# Altium footprint library LTC1380CSTR.PcbLib: 1 footprints
Each footprint in its own frame and in the unit in brackets; x right, y up, seen from the top. Pads: shape width x height; smd on the part's side, far side on the other; paste and mask are expansions set on the pad; w line width, h text height; cw(c..) or ccw(c..) is an arc to the next point about the centre after c.
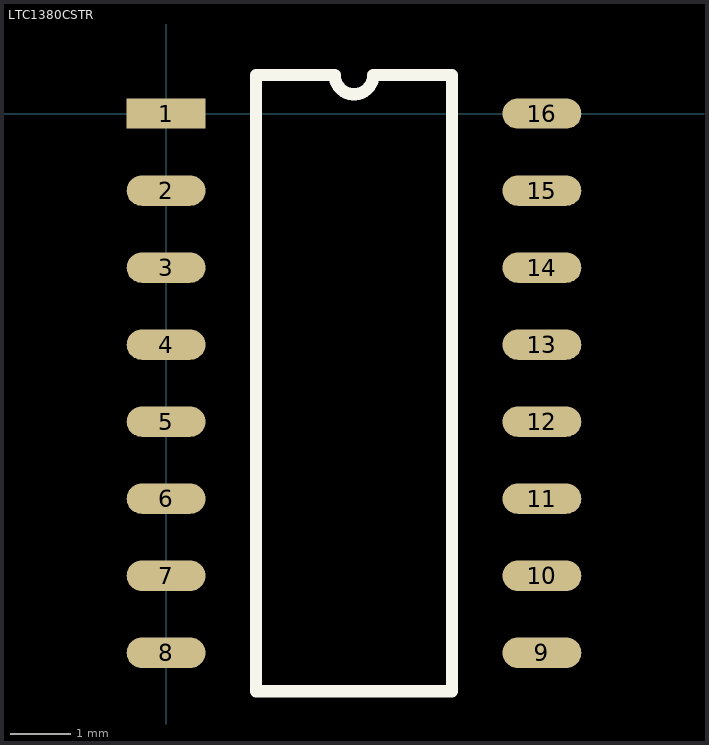
[diagram p0: the footprint, top view; thin cyan lines are the x and y axes]

## LTC1380CSTR [mm]
pads (16):
  rect 1.3x0.5 smd: 1(0,0)
  oval 1.3x0.5 smd: 2(0,-1.27) 3(0,-2.54) 4(0,-3.81) 5(0,-5.08) 6(0,-6.35) 7(0,-7.62) 8(0,-8.89) 9(6.197,-8.89) 10(6.197,-7.62) 11(6.197,-6.35) 12(6.197,-5.08) 13(6.197,-3.81) 14(6.197,-2.54) 15(6.197,-1.27) 16(6.197,0)
Top Overlay:
  lines w0.2: 1.485,-9.525 4.712,-9.525 4.712,0.635 3.416,0.635 cw(c3.099,0.635) 2.781,0.635 1.485,0.635 1.485,-9.525